# EAGLE library part WE-RJ45_7498011001A (library WE-RJ45_LAN)
WE-RJ45 LAN Transformer Characteristics RJ45 Connector with integrated transformer / common mode choke Power over Ethernet up to 50 Watt and speeds up to 10 Gbit/s Available in SMD, THT and THT with USB Compliant with standards: IEEE 802.3u, IEEE 802.3ab, IEEE 802.3af, IEEE 802.3at, IEEE 802.3an and upcoming IEE 802.3bt Improved Common Mode Rejection (CMRR) due to additional NiZn cores Applications Suitable for industrial temperatures from –40 °C up to +85 °C Compatible to Industrial Ethernet systems like EtherCAT or Profinet Compliant with most IC’s for Ethernet applications such as Microchip, Texas Instruments, Broadcom, Linear Technology Hubs, Routers, Switches, IP cameras, IoT applications Details see: www.we-online.com/components/products/WE-LAN-RJ45 Updated by Ella Wu 2025-08-28 2025 (C) Würth Elektronik
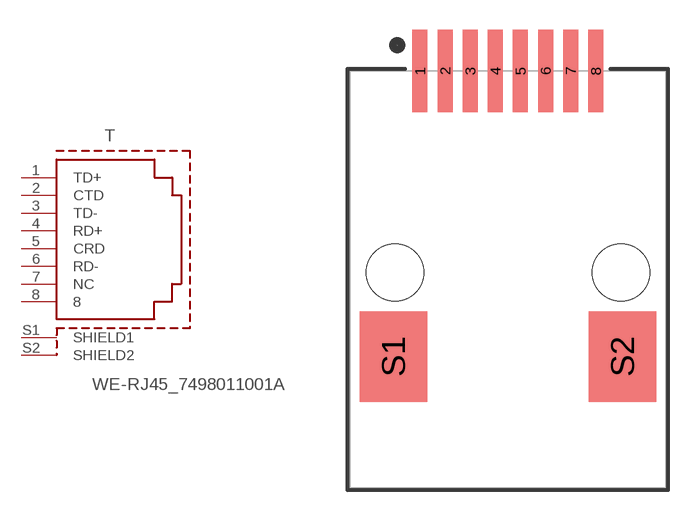
[diagram p7: symbol with the pads of 7498011001A; footprint 7498011001A]

Designator prefix T

## WE-RJ45_7498011001A (DATA-RATE: 10/100BASE-T; DATASHEET: https://www.we-online.com/redexpert/spec/7498011001A?ae; IMPROVED-CMRR: No; LED: -; MOUNT: SMT; OPERATING-TEMPERATURE: 0 °C up to +70 °C; PART-NUMBER: 7498011001A; PHY-CHIP-MODE: current & voltage; POE: non-PoE; PORTS: 1; SHIELD-TABS: Yes; TAB: Down; USB: No; VALUE: 7498011001A)  [7498011001A]
1  TD+  pas
2  CTD  pas
3  TD-  pas
4  RD+  pas
5  CRD  pas
6  RD-  pas
7  NC  pas
8  8  pas
S1  SHIELD1  pas
S2  SHIELD2  pas

## Footprint 7498011001A (pad centres in mm)
WE-RJ45 LAN Transformer 10/100BASE-T, Ports:1, Tab:Down
smd 0.76 x 4.18: 1 -4.445,10.2; 2 -3.175,10.2; 3 -1.905,10.2; 4 -0.635,10.2; 5 0.635,10.2; 6 1.905,10.2; 7 3.175,10.2; 8 4.445,10.2
smd 3.42 x 4.58: S1 -5.79,-4.25; S2 5.79,-4.25
hole 2.9 at 5.715,0
hole 2.9 at -5.715,0